# Altium schematic symbol library 2024-02-03_23-24-40.SchLib: 1 symbol
Pins are listed as number, name and electrical type; pins without a type are passive.

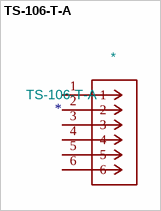
[diagram p0: symbol TS-106-T-A]

## TS-106-T-A
designator *  value TS-106-T-A
ki_fp_filters: CON6_1X6_TU_HTS_SAI; Footprint: CON6_1X6_TU_HTS_SAI; Supplier: TS-106-T-A; ki_keywords: TS-106-T-A
footprint CON6_1X6_TU_HTS_SAI
pins: 1, 2, 3, 4, 5, 6
1 alternate drawing of the same symbol